# Altium schematic symbol library Schlib2.SchLib: 24 symbols
Pins are listed as number, name and electrical type; pins without a type are passive.

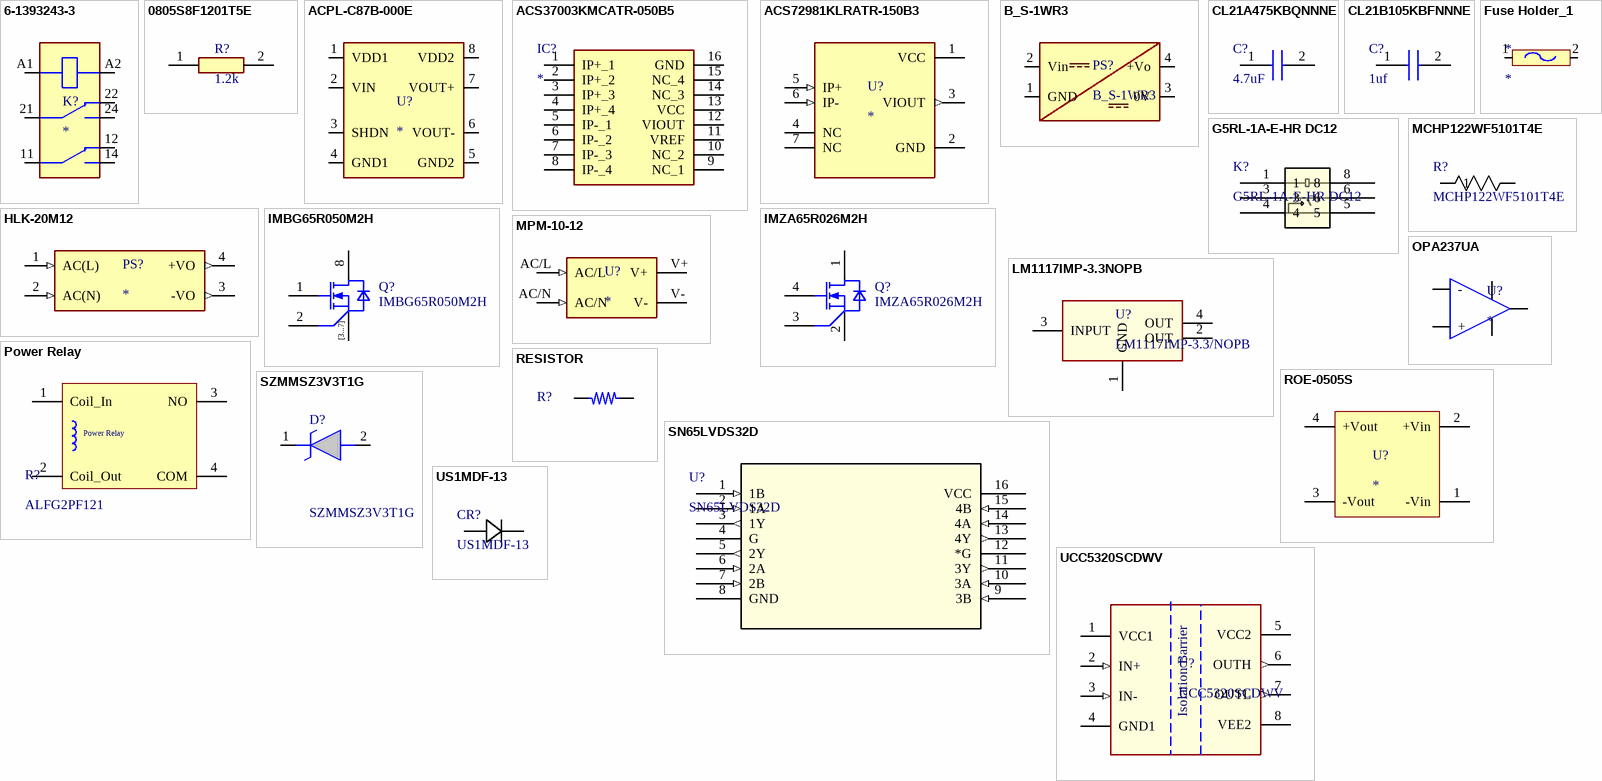
[diagram p0: symbols 6-1393243-3 to US1MDF-13]

## 6-1393243-3
designator K?
General Purpose Relay DPDT (2 Form C) 12VDC Coil Through Hole; MF: TE Connectivity; MP: 6-1393243-3; SnapEDA_Link: https://www.snapeda.com/parts/6-1393243-3/TE+Connectivity+Potter+%2526+Brumfield+Relays/view-part/?ref=snap; Package: None; Value: *; Check_prices: https://www.snapeda.com/parts/6-1393243-3/TE+Connectivity+Potter+%2526+Brumfield+Relays/view-part/?ref=eda
footprint RELAY_6-1393243-3
pins: 11, 12, 14, 21, 22, 24, A1, A2

## 0805S8F1201T5E
designator R?, comment 1.2k
Manufacturer_Name: ROYALOHM; Manufacturer_Part_Number: 0805S8F1201T5E; Datasheet Link: https://www.ozdisan.com/api/pdf/product/assets/general_royalohm.pdf; Özdisan_Stock: https://www.ozdisan.com/p/smt-smd-ve-cip-direncler-194/royalohm-0805s8f1201t5e-335036; Value: 1.2k
footprint CAPC2012X140N
pins: 1, 2

## ACPL-C87B-000E
designator U?
Isolation Amplifier 1 Circuit Differential 8-SO; MP: ACPL-C87B-000E; MF: Broadcom Limited; SnapEDA_Link: https://www.snapeda.com/parts/ACPL-C87B-000E/Broadcom%20Limited/view-part/1969988/?ref=snap; Availability: Unavailable; Value: *; Price: None; Package: SO-8 Broadcom
footprint SOIC127P1150X320-8N (SOIC, 8-Leads, Body 6,80x5,85mm, Pitch 1,27mm, IPC Medium Density)
pins: 1 VDD1, 2 VIN, 3 SHDN, 4 GND1 (power), 5 GND2, 6 VOUT-, 7 VOUT+, 8 VDD2

## ACS37003KMCATR-050B5
designator IC?
Integrated Circuit; Manufacturer_Name: Allegro Microsystems; Manufacturer_Part_Number: ACS37003KMCATR-050B5; Datasheet Link: https://www.allegromicro.com/~/media/files/datasheets/acs37003mc-datasheet.pdf; Height: 3.285mm; Mouser Part Number: 250-03KMCATR-050B5; Mouser Price/Stock: https://www.mouser.co.uk/ProductDetail/Allegro-MicroSystems/ACS37003KMCATR-050B5?qs=e8oIoAS2J1SA8AOU7XDYIg%3D%3D; Arrow Part Number: ACS37003KMCATR-050B5; Arrow Price/Stock: https://www.arrow.com/en/products/acs37003kmcatr-050b5/allegro-microsystems?utm_currency=USD&region=nac
footprint ACS37002LMCA050U5
pins: 1 IP+_1, 2 IP+_2, 3 IP+_3, 4 IP+_4, 5 IP-_1, 6 IP-_2, 7 IP-_3, 8 IP-_4, 9 NC_1, 10 NC_2, 11 VREF, 12 VIOUT, 13 VCC, 14 NC_3, 15 NC_4, 16 GND

## ACS72981KLRATR-150B3
designator U?
Current Sensor 150A 1 Channel Hall Effect, Differential Bidirectional 7-PowerSMD Module; MF: Allegro MicroSystems; MP: ACS72981KLRATR-150B3; SnapEDA_Link: https://www.snapeda.com/parts/ACS72981KLRATR-150B3/Allegro+MicroSystems+LLC/view-part/?ref=snap; Package: PowerSMD-7 Allegro MicroSystems; Value: *; Check_prices: https://www.snapeda.com/parts/ACS72981KLRATR-150B3/Allegro+MicroSystems+LLC/view-part/?ref=eda
footprint XDCR_ACS72981KLRATR-150B3
pins: 1 VCC (power), 2 GND (power), 3 VIOUT (out), 4 NC, 5 IP+ (in), 6 IP- (in), 7 NC

## B_S-1WR3
designator PS?
Datasheet_Link: https://www.mornsun-power.com/html/pdf/B1224S-1WR3.html; Supply_Link: https://www.motorobit.com/b1224s-1wr3-dc-dc-1w-108-132v-giris-24v-cikis-voltaj-donusturucu
footprint B_S-1WR3
pins: 1 GND, 2 Vin, 3 0V, 4 +Vo

## CL21A475KBQNNNE
designator C?, comment 4.7uF
Capacitor; Manufacturer_Name: SAMSUNG; Manufacturer_Part_Number: CL21A475KBQNNNE; Datasheet Link: https://ms.componentsearchengine.com/Datasheets/2/CL21A475KBQNNNE.pdf; Height: 1.4mm; Mouser Part Number: 187-CL21A475KBQNNNE; Mouser Price/Stock: https://www.mouser.co.uk/ProductDetail/Samsung-Electro-Mechanics/CL21A475KBQNNNE?qs=PrRfcuU4sMYF%2FNLy2b9Ujg%3D%3D; Arrow Part Number: CL21A475KBQNNNE; Arrow Price/Stock: https://www.arrow.com/en/products/cl21a475kbqnnne/samsung-electro-mechanics?utm_currency=USD&region=nac; Value: 4.7uF
footprint CAPC2012X140N
pins: 1, 2

## CL21B105KBFNNNE
designator C?, comment 1uf
Capacitor; Manufacturer_Name: SAMSUNG; Manufacturer_Part_Number: CL21B105KBFNNNE; Datasheet Link: https://componentsearchengine.com/Datasheets/2/CL21B105KBFNNNE.pdf; Height: 1.35mm; Mouser Part Number: 187-CL21B105KBFNNNE; Mouser Price/Stock: https://www.mouser.co.uk/ProductDetail/Samsung-Electro-Mechanics/CL21B105KBFNNNE?qs=yOVawPpwOwmddQEBPU6Y9A%3D%3D; Arrow Part Number: CL21B105KBFNNNE; Arrow Price/Stock: https://www.arrow.com/en/products/cl21b105kbfnnne/samsung-electro-mechanics.html?utm_currency=USD&region=nac; Value: 1uf
footprint CAPC2012X140N
pins: 1, 2

## Fuse Holder_1
designator *
footprint Fuse Holder (5mm*20mm Fuse Holder)
pins: 1 VCC27, 2 VCC26

## G5RL-1A-E-HR DC12
designator K?
Description; Manufacturer_Name: Omron; Copyright: Copyright (C) 2025 Ultra Librarian. All rights reserved.; Manufacturer_Part_Number: G5RL-1A-E-HR DC12; RefDes: RefDes; Type: Type
footprint RELAY_G5RL-1A-E-HR DC5_OMR
pins: 1, 3, 4, 5, 6, 8

## HLK-20M12
designator PS?
20W ultra-small series module power supply; MF: Hi-link; MP: HLK-20M12; SnapEDA_Link: https://www.snapeda.com/parts/HLK-20M12/Hi-link/view-part/?ref=snap; Package: Non-Standard Hi-link; Value: *; Check_prices: https://www.snapeda.com/parts/HLK-20M12/Hi-link/view-part/?ref=eda
footprint CONV_HLK-20M12
pins: 1 AC(L) (in), 2 AC(N) (in), 3 -VO (out), 4 +VO (out)

## IMBG65R050M2H
designator Q?
Insulated-Gate Field-Effect Transistor (IGFET), N-Channel, Enhancement, Body Diode, Pin 1 Gate, 2 Driver Source, 3 Power Source, 4 Power Source, 5 Power Source, 6 Power Source, 7 Power Source, 8 Drain, 8 Pins; Manufacturer: Infineon Technologies; Manufacturer Order Number: IMBG65R050M2H; PackageReference: PG-TO263-7-12
footprint TO127P1500X470-8N-2-V1 (TO,1.27mm pitch;7 pin,15.00mm L X 9.25mm W X 4.70mm H body)
pins: 1 GATE, 2 DRIVER SOURCE, 3 POWER SOURCE, 4 POWER SOURCE, 5 POWER SOURCE, 6 POWER SOURCE, 7 POWER SOURCE, 8 DRAIN
text: [3...7]

## IMZA65R026M2H
designator Q?
Insulated-Gate Field-Effect Transistor (IGFET), N-Channel, Enhancement, Body Diode, Pin 1 Drain, 2 Power Source,  3 Driver Source, 4 Gate, 4 Pins; Manufacturer: Infineon Technologies; Manufacturer Order Number: IMZA65R026M2H; PackageReference: PG-TO247-4-8
footprint INF-PG-TO247-4-3 (TO-247-4, THT, 4 pin, 15.80 mm L X 5.00 mm W X 25.27 mm H body)
pins: 1 DRAIN, 2 SOURCE1 "Power Source", 3 SOURCE2 "Driver Source", 4 GATE

## LM1117IMP-3.3NOPB
designator U?, comment LM1117IMP-3.3/NOPB
800-mA 15-V linear voltage regulator 4-SOT-223 -40 to 125; Manufacturer_Name: Texas Instruments; TYPE: TYPE; RefDes: RefDes; Copyright: Copyright (C) 2025 Ultra Librarian. All rights reserved.; Manufacturer_Part_Number: LM1117IMP-3.3/NOPB; Datasheet: https://www.ti.com/lit/gpn/lm1117
footprint DCY0004A_M
pins: 1 GND (power), 2 OUT (power), 3 INPUT (power), 4 OUT (power)

## MCHP122WF5101T4E
designator R?
Description; Manufacturer_Name: Multicomp; Type: Chip Resistor - Surface Mount; Copyright: Copyright (C) 2025 Ultra Librarian. All rights reserved.; Manufacturer_Part_Number: MCHP122WF5101T4E
footprint RES_MCHP12_2512_MTC
pins: 1, 2

## MPM-10-12
designator U?
Enclosed AC DC Converters 1 Uitgang 12V 850mA 80 ~ 264 VAC Input; MP: MPM-10-12; MF: Mean-Well USA, Inc.; Availability: Warning; Check_prices: https://www.snapeda.com/parts/MPM-10-12/MEAN%20WELL%20USA%20Inc./view-part/3226349/?ref=eda; SnapEDA_Link: https://www.snapeda.com/parts/MPM-10-12/MEAN%20WELL%20USA%20Inc./view-part/3226349/?ref=snap; Price: None; Purchase-URL: https://pricing.snapeda.com/search/part/MPM-10-12/?ref=eda; Package: DIP-4 Mean-Well USA, Inc.; Value: *
footprint CONV_MPM-10-12
pins: AC/L (in), AC/N (in), V+, V-

## OPA237UA
designator U?
Single-Supply Operational Amplifiers MicroAmplifier™ Series 8-SOIC -40 to 70; Manufacturer: Texas Instruments; Manufacturer Part Number: OPA237UA; Bandwidth: 1.5MHz; Unity Gain Bandwidth Product: 1.4MHz; Min Supply Voltage: 2.7V; Max Supply Voltage: 36V; Nominal Supply Current: 475uA; Voltage Gain: 88dB; Common Mode Rejection Ratio: 78dB; Number of Channels: 1; Slew Rate: 0.5V/µs; Max I/O Voltage: 750uV; Input Bias Current: 40nA; Operating Supply Current: 200uA; Power Supply Rejection Ratio (PSRR): 100dB; Output Current per Channel: 8mA; Operating Supply Voltage: 5V; Dual Supply Voltage: 15V; Min Dual Supply Voltage: 1.35V; Max Dual Supply Voltage: 18V; Supplier 1: Digi-Key; RoHS: Yes; Category: Amplifiers - Op Amps, Buffer, Instrumentation; Stock 1: 186; Pricing 1: 1=2,06000, 10=1,85400, 25=1,74880, 100=1,49010, 250=1,39920, 500=1,22430, 1000=1,15500 (USD); Case/Package: D; Number of Pins: 8; Min Operating Temperature: -40°C; Max Operating Temperature: 70°C; Package Quantity: 75; Packaging: Rail/Tube; Number of Circuits: 1; Gain Bandwidth Product: 1.4MHz; Input Offset Voltage (Vos): 750uV; Number of Elements: 1; Number of Amplifiers: 1; Nominal Gain Bandwidth Product: 1.4MHz; Length: 4.9mm; Width: 3.91mm; Height: 1.58mm; Radiation Hardening: No; Lead Free: Lead Free; REACH SVHC: No SVHC; ComponentLink1URL: https://datasheet.ciiva.com/7684/1789011-7684483.pdf?src-supplier=Element14; ComponentLink1Description: https://datasheet.ciiva.com/7684/1789011-7684483.pdf?src-supplier=Element14; ComponentLink2URL: https://datasheet.ciiva.com/22729/1716473-22729883.pdf?src-supplier=Element14; ComponentLink2Description: https://datasheet.ciiva.com/22729/1716473-22729883.pdf?src-supplier=Element14; ComponentLink3URL: https://datasheet.ciiva.com/2973/sbos057a-2973962.pdf?src-supplier=Avnet; ComponentLink3Description: https://datasheet.ciiva.com/2973/sbos057a-2973962.pdf?src-supplier=Avnet; ComponentLink4URL: https://datasheet.ciiva.com/26243/sbos057a-26243614.pdf?src-supplier=Avnet+Europe; ComponentLink4Description: https://datasheet.ciiva.com/26243/sbos057a-26243614.pdf?src-supplier=Avnet+Europe; ComponentLink5URL: https://datasheet.ciiva.com/1803/opa2237-1803652.pdf?src-supplier=Digi-Key; ComponentLink5Description: https://datasheet.ciiva.com/1803/opa2237-1803652.pdf?src-supplier=Digi-Key; ComponentLink6URL: https://datasheet.ciiva.com/48707/001011214-da-01-en-ic-opamp-gp-1-5mhz-s-opa237ua-soic-8-tid-48707210.pdf?src-supplier=Conrad; ComponentLink6Description: https://datasheet.ciiva.com/48707/001011214-da-01-en-ic-opamp-gp-1-5mhz-s-opa237ua-soic-8-tid-48707210.pdf?src-supplier=Conrad; Supplier Part Number 1: OPA237UA-ND
footprint SOIC127P599X175-8N
pins: 2 -, 3 +, 4 V-, 6 Vout, 7 V+

## Power Relay
designator R?, comment ALFG2PF121
footprint Power Relay (AC Input Power Relay Non-Latching)
pins: 1 Coil_In, 2 Coil_Out, 3 NO, 4 COM

## RESISTOR
designator R?
Manufacturer: TE CONNECTIVITY; Manufacturer Part Number: 352124KFT; Product Range: 3520 Series; Resistance: 24; Power Rating: 2; Resistance Tolerance: ± 1%; Voltage Rating: 250; Resistor Case Style: 2512 [6432 Metric]; Temperature Coefficient: ± 100; SVHC: No SVHC (15-Jun-2015); Resistor Mounting: SMD<!--FANDB--><div class="features-and-benefits-container"></div>; Supplier 1: Farnell; RoHS: YES; Stock 1: 6653; Pricing 1: 1=0.481, 150=0.1603, 400=0.1374, 1000=0.1069, 2000=0.0875, 4000=0.0764, 20000=0.0749, 40000=0.0733 (GBP); Packaging: Cut Tape; Resistor Element Material: -; MSL: -; ComponentLink1URL: http://www.farnell.com/datasheets/1610601.pdf; ComponentLink1Description: http://www.farnell.com/datasheets/1610601.pdf
footprint Power Resistor (5W 1kOhm Precharge Resistor)
pins: 1 TOP, 2 BOT

## ROE-0505S
designator U?
DC DC CONVERTER 5V 1W; Manufacturer 1: Recom; Manufacturer Part Number 1: ROE-1205S; Number of Outputs: 1; Min Input Voltage: 10.8V; Max Input Voltage: 13.2V; Max Output Current: 200mA; Isolation Voltage: 1kV; Efficiency: 80%; Supplier 1: Digi-Key; Description 1: DC DC CONVERTER 5V 1W; Stock 1: 1769; Pricing 1: 1=2,94000, 5=2,89800, 10=2,85600, 25=2,77200, 50=2,68800, 100=2,60400, 250=2,52000, 500=2,35200 (USD); RoHS: Yes; Mount: Through Hole; Case/Package: SIP; Weight: 1.4g; Min Operating Temperature: -40°C; Max Operating Temperature: 85°C; Packaging: Rail/Tube; Voltage - Output 1: 5V; Max Power Dissipation: 1W; Max Output Voltage: 5V; Length: 11.5mm; Height: 10mm; Width: 6mm; Lead Free: Lead Free; ComponentLink1URL: http://www.farnell.com/datasheets/1960995.pdf?src-supplier=Newark; ComponentLink1Description: http://www.farnell.com/datasheets/1960995.pdf?src-supplier=Newark; ComponentLink2URL: https://www.recom-power.com/pdf/Econoline/ROE.pdf?src-supplier=Digi-Key; ComponentLink2Description: https://www.recom-power.com/pdf/Econoline/ROE.pdf?src-supplier=Digi-Key; Supplier Part Number 1: ROE-1205S-ND
footprint CONV_ROE-0505S
pins: 1 -Vin, 2 +Vin, 3 -Vout, 4 +Vout

## SN65LVDS32D
designator U?
400-Mbps LVDS quad high speed differential receiver 16-SOIC -40 to 85; Manufacturer_Name: Texas Instruments; Copyright: Copyright (C) 2025 Ultra Librarian. All rights reserved.; Manufacturer_Part_Number: SN65LVDS32D; RefDes: RefDes; Type: Type
footprint D16-M
pins: 1 1B (in), 2 1A (in), 3 1Y (out), 4 G, 5 2Y (out), 6 2A (in), 7 2B (in), 8 GND (power), 9 3B (in), 10 3A (in), 11 3Y (out), 12 *G, 13 4Y (out), 14 4A (in), 15 4B (in), 16 VCC (power)

## SZMMSZ3V3T1G
designator D?
500 mW Rating on FR-4 or FR-5 Board; Wide Zener Reverse Voltage Range - 2.4 V to 56 V; Package Designed for Optimal Automated Board Assembly; Small Package Size for High Density Applications; ESD Rating of Class 3 (exceeding 16 kV) per the Human Body Model Mechanical Characteristics:; CASE: Void-free, transfer-molded, thermosetting plastic case; FINISH: Corrosion resistant finish, easily solderable; MAXIMUM CASE TEMPERATURE FOR SOLDERING PURPOSES: 260C for 10 Seconds; POLARITY: Cathode indicated by polarit; Manufacturer_Name: onsemi; Geometry.Height: 1.35mm; Mouser Part Number: 863-SZMMSZ3V3T1G; Mouser Price/Stock: https://www.mouser.co.uk/ProductDetail/onsemi/SZMMSZ3V3T1G?qs=PJJcWtbOkNWDWixFbpUCfA%3D%3D; Manufacturer_Part_Number: SZMMSZ3V3T1G; Datasheet Link: https://www.onsemi.com/pub/Collateral/MMSZ2V4T1-D.PDF
footprint SOD3716X135N
pins: 1 K, 2 A

## UCC5320SCDWV
designator U?
3k/5kVrms, 2A/2A single-channel isolated gate driver with UVLO referenced to GND or split output 8-SOIC -40 to 125; Manufacturer_Name: Texas Instruments; TYPE: TYPE; RefDes: RefDes; Copyright: Copyright (C) 2025 Ultra Librarian. All rights reserved.; Manufacturer_Part_Number: UCC5320SCDWV; Datasheet: https://www.ti.com/lit/gpn/ucc5320
footprint DWV0008A
pins: 1 VCC1 (power), 2 IN+ (in), 3 IN- (in), 4 GND1 (power), 5 VCC2 (power), 6 OUTH (out), 7 OUTL (out), 8 VEE2 (power)
text: Isolation Barrier

## US1MDF-13
designator CR?
No Description Available; Mfr_Name: Diodes Inc; Type: DEV; Copyright: Copyright (C) 2021 Ultra Librarian. All rights reserved.; Manufacturer_Part_Number: US1MDF-13; RefDes: RefDes
footprint DIODE_US1MDF-13_DIO-M
pins: 1, 2